# EAGLE library part QN9021 (library gee_s)
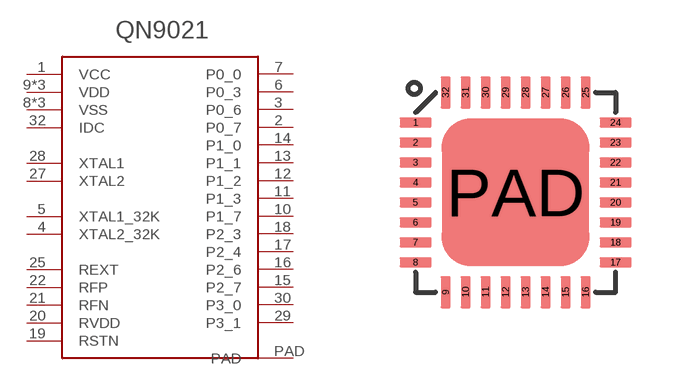
[diagram p25: symbol with the pads of QFN32LL; footprint QFN32LL]

Designator prefix -

## QN9021  [QFN32LL]
1  VCC
2  P0_7
3  P0_6
4  XTAL2_32K
5  XTAL1_32K
6  P0_3
7  P0_0
8  VSS
9  VDD
10  P1_7
11  P1_3
12  P1_2
13  P1_1
14  P1_0
15  P2_7
16  P2_6
17  P2_4
18  P2_3
19  RSTN
20  RVDD
21  RFN
22  RFP
23  VSS
24  VDD
25  REXT
26  VDD
27  XTAL2
28  XTAL1
29  P3_1
30  P3_0
31  VSS
32  IDC
PAD  PAD

## Footprint QFN32LL (pad centres in mm)
smd 0.8 x 0.25: 1 -2.5,1.75; 2 -2.5,1.25; 3 -2.5,0.75; 4 -2.5,0.25; 5 -2.5,-0.25; 6 -2.5,-0.75; 7 -2.5,-1.25; 8 -2.5,-1.75; 17 2.5,-1.75; 18 2.5,-1.25; 19 2.5,-0.75; 20 2.5,-0.25; 21 2.5,0.25; 22 2.5,0.75; 23 2.5,1.25; 24 2.5,1.75
smd 0.25 x 0.8: 9 -1.75,-2.5; 10 -1.25,-2.5; 11 -0.75,-2.5; 12 -0.25,-2.5; 13 0.25,-2.5; 14 0.75,-2.5; 15 1.25,-2.5; 16 1.75,-2.5; 25 1.75,2.5; 26 1.25,2.5; 27 0.75,2.5; 28 0.25,2.5; 29 -0.25,2.5; 30 -0.75,2.5; 31 -1.25,2.5; 32 -1.75,2.5
smd 3.7 x 3.7: PAD 0,0